# EAGLE library part 5749721-7 (library D-Sub Connectors)
CONN D-TYPE RCPT 68POS VERT SLDR Manufacturer's datasheet <https://www.te.com/commerce/DocumentDelivery/DDEController?Action=srchrtrv&DocNm=5749721&DocType=Customer+Drawing&DocLang=English>
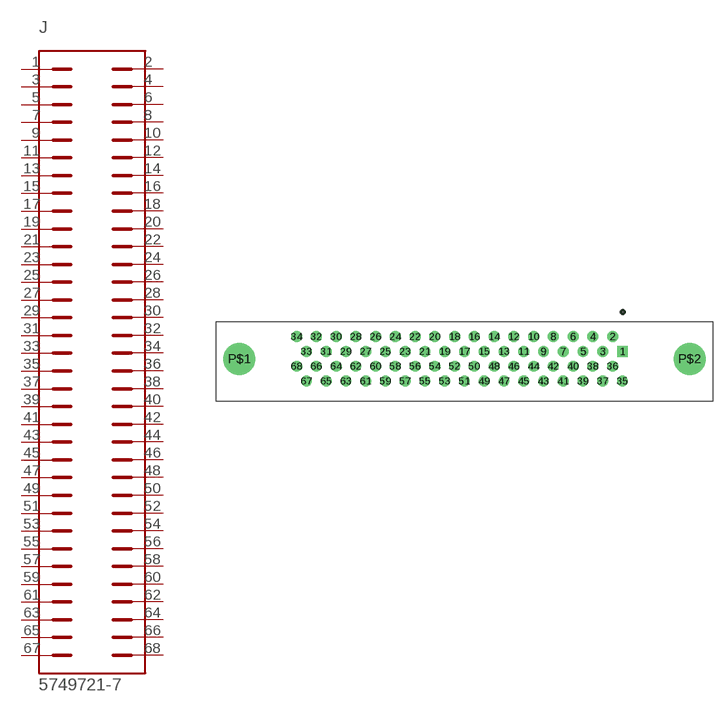
[diagram p11: symbol with the pads of 5749721-7; footprint 5749721-7]

Designator prefix J

## 5749721-7 (CREATED_BY: PCBLayout.com; DIGIKEY_PART_NO: A31826-ND; MANUFACTURER: TE Connectivity AMP Connectors; MPN: 5749721-7)  [5749721-7]
1  1  pas
2  2  pas
3  3  pas
4  4  pas
5  5  pas
6  6  pas
7  7  pas
8  8  pas
9  9  pas
10  10  pas
11  11  pas
12  12  pas
13  13  pas
14  14  pas
15  15  pas
16  16  pas
17  17  pas
18  18  pas
19  19  pas
20  20  pas
21  21  pas
22  22  pas
23  23  pas
24  24  pas
25  25  pas
26  26  pas
27  27  pas
28  28  pas
29  29  pas
30  30  pas
31  31  pas
32  32  pas
33  33  pas
34  34  pas
35  35  pas
36  36  pas
37  37  pas
38  38  pas
39  39  pas
40  40  pas
41  41  pas
42  42  pas
43  43  pas
44  44  pas
45  45  pas
46  46  pas
47  47  pas
48  48  pas
49  49  pas
50  50  pas
51  51  pas
52  52  pas
53  53  pas
54  54  pas
55  55  pas
56  56  pas
57  57  pas
58  58  pas
59  59  pas
60  60  pas
61  61  pas
62  62  pas
63  63  pas
64  64  pas
65  65  pas
66  66  pas
67  67  pas
68  68  pas

## Footprint 5749721-7 (pad centres in mm)
drill 0.9 square: 1 20.32,0
drill 0.9: 2 19.05,1.91; 3 17.78,0; 4 16.51,1.91; 5 15.24,0; 6 13.97,1.91; 7 12.7,0; 8 11.43,1.91; 9 10.16,0; 10 8.89,1.91; 11 7.62,0; 12 6.35,1.91; 13 5.08,0; 14 3.81,1.91; 15 2.54,0; 16 1.27,1.91; 17 0,0; 18 -1.27,1.91; 19 -2.54,0; 20 -3.81,1.91; 21 -5.08,0; 22 -6.35,1.91; 23 -7.62,0; 24 -8.89,1.91; 25 -10.16,0; 26 -11.43,1.91; 27 -12.7,0; 28 -13.97,1.91; 29 -15.24,0; 30 -16.51,1.91; 31 -17.78,0; 32 -19.05,1.91; 33 -20.32,0; 34 -21.59,1.91; 35 20.32,-3.81; 36 19.05,-1.9; 37 17.78,-3.81; 38 16.51,-1.9; 39 15.24,-3.81; 40 13.97,-1.9; 41 12.7,-3.81; 42 11.43,-1.9; 43 10.16,-3.81; 44 8.89,-1.9; 45 7.62,-3.81; 46 6.35,-1.9; 47 5.08,-3.81; 48 3.81,-1.9; 49 2.54,-3.81; 50 1.27,-1.9; 51 0,-3.81; 52 -1.27,-1.9; 53 -2.54,-3.81; 54 -3.81,-1.9; 55 -5.08,-3.81; 56 -6.35,-1.9; 57 -7.62,-3.81; 58 -8.89,-1.9; 59 -10.16,-3.81; 60 -11.43,-1.9; 61 -12.7,-3.81; 62 -13.97,-1.9; 63 -15.24,-3.81; 64 -16.51,-1.9; 65 -17.78,-3.81; 66 -19.05,-1.9; 67 -20.32,-3.81; 68 -21.59,-1.9
drill 3.1: P$1 -28.955,-0.953; P$2 28.955,-0.953